# EAGLE library part IC-USB-TUSB2036 (library mylib)
2/3-port USB hub IC
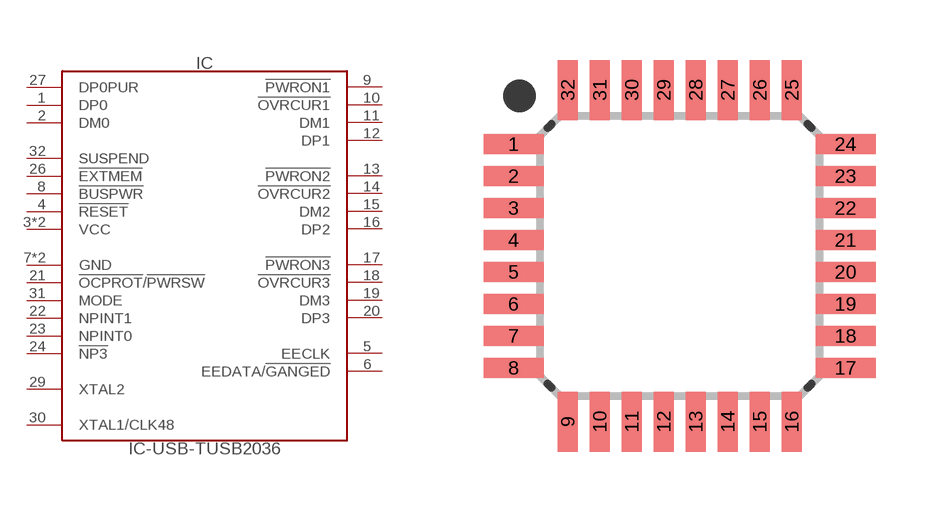
[diagram p114: symbol with the pads of QFP32-0.8P7.2X7.2; footprint QFP32-0.8P7.2X7.2]

Designator prefix IC

## IC-USB-TUSB2036 (DIGIKEY: 296-27129-1-ND; SMD-PAD: 32)  [QFP32-0.8P7.2X7.2]
1  DP0
2  DM0
3  VCC  pwr
4  !RESET!  in
5  EECLK  out
6  EEDATA/!GANGED!
7  GND  pwr
8  !BUSPWR!  in
9  !PWRON1!  out
10  !OVRCUR1!  in
11  DM1
12  DP1
13  !PWRON2!  out
14  !OVRCUR2!  in
15  DM2
16  DP2
17  !PWRON3!  out
18  !OVRCUR3!  in
19  DM3
20  DP3
21  !OCPROT!/!PWRSW!  in
22  NPINT1  in
23  NPINT0  in
24  !NP3!  in
25  VCC  pwr
26  !EXTMEM!  in
27  DP0PUR  out
28  GND  pwr
29  XTAL2  out
30  XTAL1/CLK48  in
31  MODE  in
32  SUSPEND  out

## Footprint QFP32-0.8P7.2X7.2 (pad centres in mm)
smd 1.5 x 0.5: 1 -4.15,2.8; 2 -4.15,2; 3 -4.15,1.2; 4 -4.15,0.4; 5 -4.15,-0.4; 6 -4.15,-1.2; 7 -4.15,-2; 8 -4.15,-2.8; 17 4.15,-2.8; 18 4.15,-2; 19 4.15,-1.2; 20 4.15,-0.4; 21 4.15,0.4; 22 4.15,1.2; 23 4.15,2; 24 4.15,2.8
smd 0.5 x 1.5: 9 -2.8,-4.15; 10 -2,-4.15; 11 -1.2,-4.15; 12 -0.4,-4.15; 13 0.4,-4.15; 14 1.2,-4.15; 15 2,-4.15; 16 2.8,-4.15; 25 2.8,4.15; 26 2,4.15; 27 1.2,4.15; 28 0.4,4.15; 29 -0.4,4.15; 30 -1.2,4.15; 31 -2,4.15; 32 -2.8,4.15